# EAGLE library part ATMEGA406 (library U-AVR)
ATMEGA406-1AAU (48 LQFP) EEPROM: 512 RAM: 2k Flash: 40k
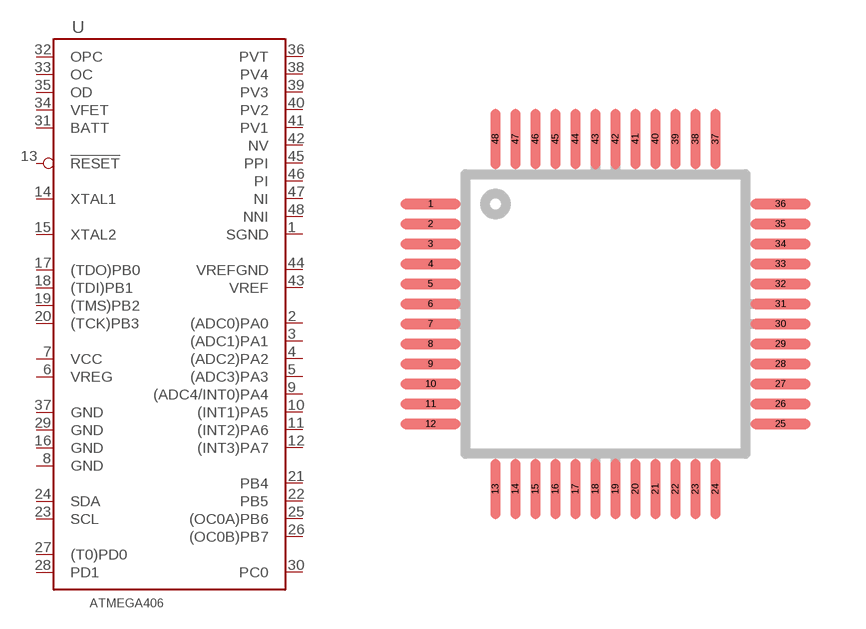
[diagram p10: symbol with the pads of TQFP48; footprint TQFP48]

Designator prefix U

## ATMEGA406LQFP48  [TQFP48]
1  SGND  pwr
2  (ADC0)PA0
3  (ADC1)PA1
4  (ADC2)PA2
5  (ADC3)PA3
6  VREG  pas
7  VCC  pas
8  GND  pwr
9  (ADC4/INT0)PA4
10  (INT1)PA5
11  (INT2)PA6
12  (INT3)PA7
13  !RESET  in
14  XTAL1
15  XTAL2
16  GND  pwr
17  (TDO)PB0
18  (TDI)PB1
19  (TMS)PB2
20  (TCK)PB3
21  PB4
22  PB5
23  SCL
24  SDA
25  (OC0A)PB6
26  (OC0B)PB7
27  (T0)PD0
28  PD1
29  GND  pwr
30  PC0
31  BATT  pas
32  OPC
33  OC
34  VFET  pas
35  OD  out
36  PVT  pas
37  GND  pwr
38  PV4  pas
39  PV3  pas
40  PV2  pas
41  PV1  pas
42  NV  pas
43  VREF  pas
44  VREFGND  pwr
45  PPI  pas
46  PI  pas
47  NI  pas
48  NNI  pas

## Footprint TQFP48 (pad centres in mm)
LQFP/TQFP 48 L is for Low-profile (1.4 mm) and T is for thin(er, 1.0 mm) note: lead pitch is 0.5mm (on 32pin lead pitch is 0.8mm), every time I look it seems wrong.
smd 1.5 x 0.25: 1 -4.375,2.75; 2 -4.375,2.25; 3 -4.375,1.75; 4 -4.375,1.25; 5 -4.375,0.75; 6 -4.375,0.25; 7 -4.375,-0.25; 8 -4.375,-0.75; 9 -4.375,-1.25; 10 -4.375,-1.75; 11 -4.375,-2.25; 12 -4.375,-2.75; 25 4.375,-2.75; 26 4.375,-2.25; 27 4.375,-1.75; 28 4.375,-1.25; 29 4.375,-0.75; 30 4.375,-0.25; 31 4.375,0.25; 32 4.375,0.75; 33 4.375,1.25; 34 4.375,1.75; 35 4.375,2.25; 36 4.375,2.75
smd 0.25 x 1.5: 13 -2.75,-4.375; 14 -2.25,-4.375; 15 -1.75,-4.375; 16 -1.25,-4.375; 17 -0.75,-4.375; 18 -0.25,-4.375; 19 0.25,-4.375; 20 0.75,-4.375; 21 1.25,-4.375; 22 1.75,-4.375; 23 2.25,-4.375; 24 2.75,-4.375; 37 2.75,4.375; 38 2.25,4.375; 39 1.75,4.375; 40 1.25,4.375; 41 0.75,4.375; 42 0.25,4.375; 43 -0.25,4.375; 44 -0.75,4.375; 45 -1.25,4.375; 46 -1.75,4.375; 47 -2.25,4.375; 48 -2.75,4.375